# Altium footprint library 我的元件库03.PcbLib: 40 footprints (part 3 of 3)
Each footprint in its own frame and in the unit in brackets; x right, y up, seen from the top. Pads: shape width x height; smd on the part's side, far side on the other; paste and mask are expansions set on the pad; w line width, h text height; cw(c..) or ccw(c..) is an arc to the next point about the centre after c.
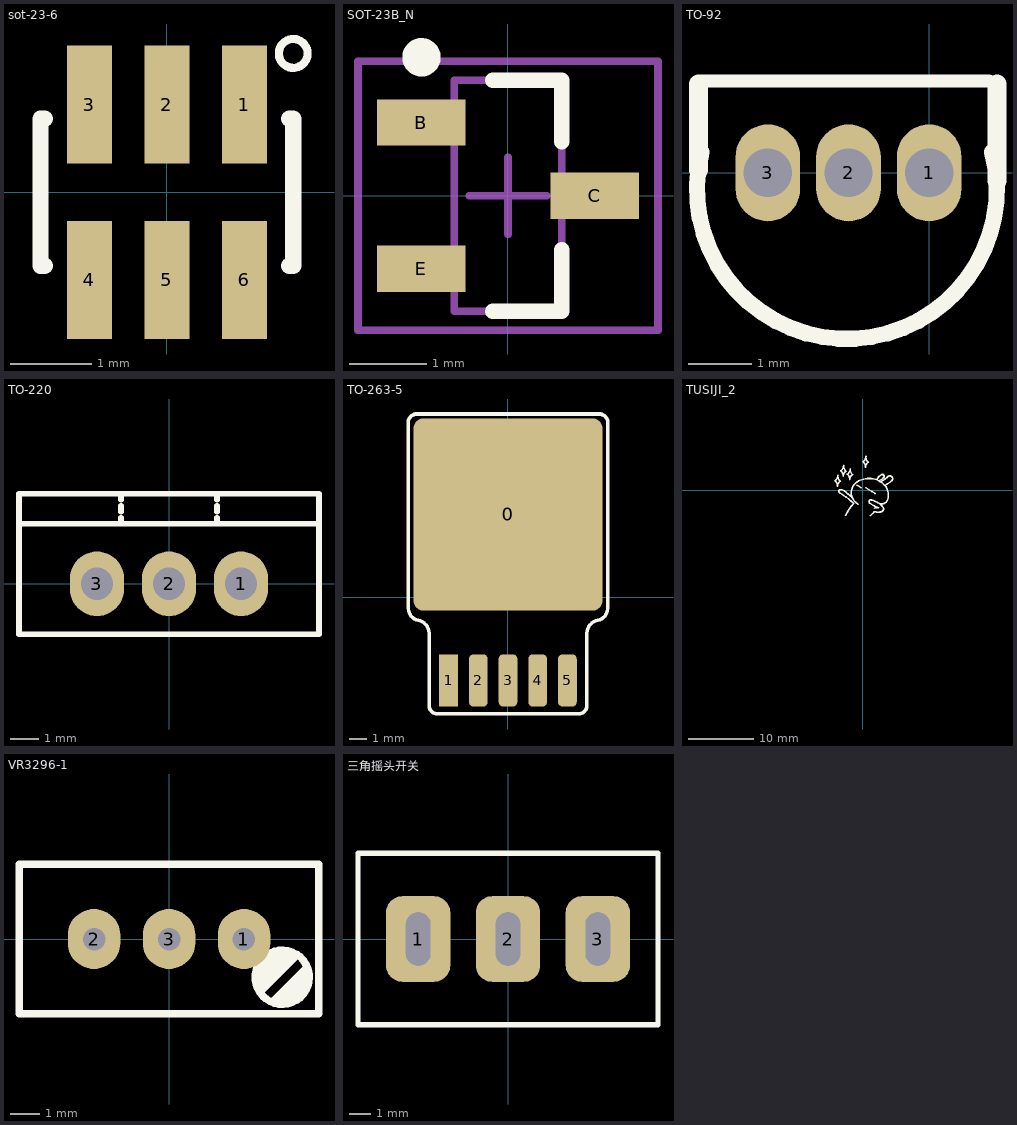
[diagram p2: the footprints below, top view; thin cyan lines are the x and y axes]

## sot-23-6 [mm] "SOT-23/SC-74A; 5 Leads; Body 3.1 x 3 mm, inc. leads (LxW max)"
height 1.45
pads (6):
  rect 0.55x1.45 smd: 1(0.95,1.075) 2(0,1.075) 3(-0.95,1.075) 4(-0.95,-1.075) 5(0,-1.075) 6(0.95,-1.075)
Top Overlay:
  circle w0.1: c1.549,1.702 r0.177
  lines w0.2: -1.5,-0.9 -1.55,-0.9 -1.55,0.9 -1.5,0.9 ; 1.5,-0.9 1.55,-0.9 1.55,0.9 1.5,0.9
3D body: height 1.08, standoff -0.01, extent -1.397,-1.194 1.397,1.232

## SOT-23B_N [mm] "SOT23, 3-Leads, Body 2.9x1.3mm, Pitch 0.95mm, Lead Span 2.4mm, IPC Medium Density"
height 1.14
pads (3):
  rect 1.15x0.6 smd: B(-1.125,0.95) C(1.125,0) E(-1.125,-0.95)
Top Overlay:
  circle w0.25: c-1.125,1.8 r0.125
  lines w0.2: -0.2,-1.5 0.7,-1.5 0.7,-0.7 ; -0.2,1.5 0.7,1.5 0.7,0.7
Mechanical 13:
  lines w0.1: -0.7,-1.5 0.7,-1.5 0.7,1.5 -0.7,1.5 -0.7,-1.5
Mechanical 15:
  lines w0.1: -0.5,0 0.5,0 ; 0,-0.5 0,0.5 ; -1.95,-1.75 1.95,-1.75 1.95,1.75 -1.95,1.75 -1.95,-1.75
3D body: height 1.14, standoff 0, extent -0.7,-1.5 0.7,1.5

## TO-92 [mil]
height 43.31
pads (3):
  oval 40x60 hole 30: 1(0,0) 2(-50,0) 3(-100,0)
Top Overlay:
  lines w8: -143,57 37,57
  lines w10: -141,13 ccw(c-51,-10) 39,13
  lines w12: -143,2 -143,55 ; 42,-5 42,55

## TO-220 [mil]
pads (3):
  oval 75x90 hole 45: 1(100,0) 2(0,0) 3(-100,0)
Top Overlay:
  lines w7.87: -66.67,83.33 -66.67,91.67 ; -66.67,100 -66.67,108.33 ; -66.67,116.67 -66.67,125 ; 66.67,83.33 66.67,91.67 ; 66.67,100 66.67,108.33 ; 66.67,116.67 66.67,125 ; -208.33,83.33 -208.33,125 208.33,125 208.33,83.33 ; -208.33,83.33 -208.33,-70 208.33,-70 208.33,83.33 ; -208.33,83.33 208.33,83.33
3D body: height 814.96, standoff -339.96, extent -212,-69 207.69,121.16

## TO-263-5 [mm]
height 1.1
pads (6):
  rrect10% 10.8x11 smd: 0(0,4.75)
  rect 1.07x3 smd: 1(-3.4,-4.75)
  rrect50% 1.07x3 smd: 2(-1.7,-4.75) 3(0,-4.75) 4(1.7,-4.75) 5(3.4,-4.75)
Top Overlay:
  lines w0.2: -4.512,-6.122 ccw(c-4.028,-6.181) -4.125,-6.659 ; 4.125,-6.659 ccw(c4.028,-6.181) 4.512,-6.122
  lines w0.203: -5.7,10.05 -5.7,-0.53 ccw(c-5.005,-0.615) -5.145,-1.301 cw(c-5.306,-2.084) -4.512,-2.181 -4.512,-6.122 ; -5.7,10.109 cw(c-5.222,10.011) -5.299,10.493 ; -5.3,10.5 5.3,10.5 ; -4.125,-6.659 4.125,-6.659 ; 4.512,-6.122 4.512,-2.181 cw(c5.306,-2.084) 5.145,-1.301 ccw(c5.005,-0.615) 5.7,-0.53 5.7,10.05 ; 5.299,10.493 cw(c5.222,10.011) 5.7,10.109
3D body: height 4.48, standoff 0, extent -5.137,-4.801 5.086,9.55

## TUSIJI_2 [mil] "TSJ"
height 43.31
Top Overlay:
  lines w10: -150.61,90 cw(c-190,90) -168.15,57.22 cw(c-195,25) -153.06,25 cw(c-120,25) -135.81,54.03 cw(c-110,85) -150,90 ; -135.32,-19.68 -145,-10 -145,-3.38 -138.31,3.31 -125.17,3.31 cw(c-255,-220) -65,-45 ; -134.59,-19.68 cw(c-345,-380) -55,-80 ccw(c325,-390) -104.17,-152.69 ; -115.61,150 cw(c-155,150) -133.15,117.22 cw(c-160,85) -118.06,85 cw(c-85,85) -100.81,114.03 cw(c-75,145) -115,150 ; -75.61,130 cw(c-115,130) -93.15,97.22 cw(c-120,65) -78.06,65 cw(c-45,65) -60.81,94.03 cw(c-35,125) -75,130 ; -34.9,30.18 cw(c-210,-285) -10,15 ; -27.41,-84.48 cw(c10,-15) -42.91,43.54 cw(c30,-45) 15.25,68.74 cw(c40,-55) 141.59,19.86 ; 19.39,205 cw(c-20,205) 1.85,172.22 cw(c-25,140) 16.94,140 cw(c50,140) 34.19,169.03 cw(c60,200) 20,205 ; 19.56,14.21 cw(c-315,-590) 75,-20 ; 45,-155 ccw(c-40,-40) 70.68,-130.55 ccw(c95,-20) 104.81,-132.77 ccw(c105,-110) 127.33,-114.47 ; 55,-60 ccw(c50,-70) 45,-80 ccw(c125,20) 90.47,-103.32 ; 55.15,-59.44 cw(c20,-185) 90,-75 ; 70,-110 cw(c95.5,-186.49) 95.96,-105.86 ; 85.54,64.69 cw(c155,25) 115.28,94.44 cw(c120,85) 127.18,77.26 cw(c80,115) 105,60 ; 90.38,-74.39 cw(c25,-180) 122.26,-102.74 cw(c110,-115) 127.34,-115 ; 104.4,-82.58 ccw(c115,-45) 152.55,-55.73 ccw(c55,-30) 135.71,30.53 ccw(c85,150) 174.11,55.64 ccw(c165,70) 155.57,84.15 ; 115,55 ccw(c35,210) 155.67,84.05

## VR3296-1 [mil]
height 43.31
pads (3):
  oval 70x80 hole 30: 1(100,0) 2(-100,0) 3(0,0)
Top Overlay:
  circle w10: c151,-51 r36.06
  lines w10: 157.76,-74.24 164.24,-74.24 171,-81 ; 171,-21 151,-41 121,-71 121,-61 161,-21 141,-21 ; 172.88,-79.12 171,-81 ; 181,-41 141,-81 151,-81 ; 131,-31 141,-31 ; 131,-31 141,-21 ; 131,-31 121,-41 121,-51 141,-31 ; 141,-31 151,-31 141,-21 ; 141,-31 141,-21 ; 151,-81 166.82,-65.18 172.88,-65.18 187.06,-51 187.06,-47.06 172.88,-61.23 170.77,-61.23 171,-61.47 171,-81 ; 151,-81 171,-81 ; -200,-100 -200,100 200,100 200,-100 0,-100 -200,-100
3D body: height 454.72, standoff -62.99, extent -185.19,-93.98 190.01,95

## 三角摇头开关 [mm]
height 2.2
pads (3):
  rrect50% 3x4 hole 1.143 slot 2.5 at 90 deg: 1(-4.191,0) 2(0,0) 3(4.191,0)
Top Overlay:
  lines w0.254: -7,-4 -5,-4 7,-4 7,0 7,4 -5,4 -6.5,4 -7,4 -7,0 -7,-4